# Altium footprint library MyPcbLib.PcbLib: 65 footprints (part 1 of 5)
Each footprint in its own frame and in the unit in brackets; x right, y up, seen from the top. Pads: shape width x height; smd on the part's side, far side on the other; paste and mask are expansions set on the pad; w line width, h text height; cw(c..) or ccw(c..) is an arc to the next point about the centre after c.
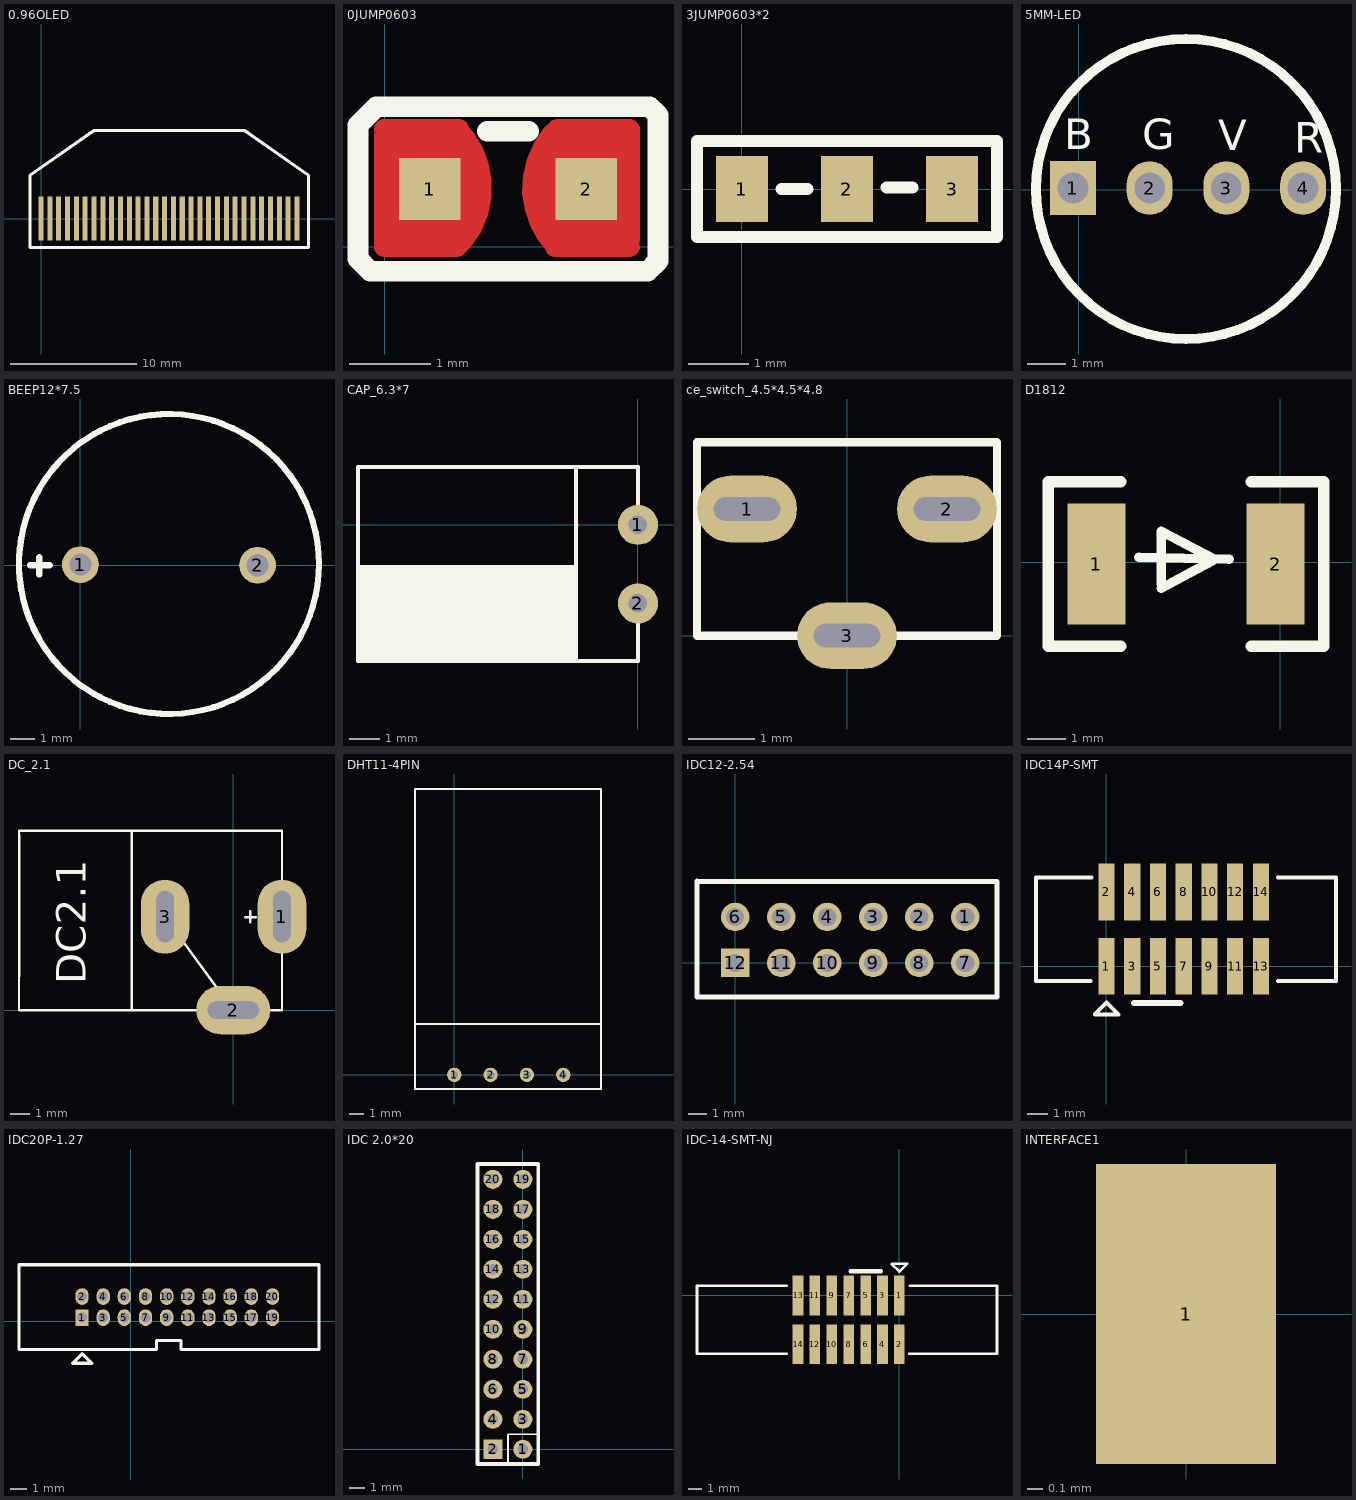
[diagram p0: the footprints below, top view; thin cyan lines are the x and y axes]

## 0.96OLED [mm]
pads (30):
  rect 0.4x3.5 smd: 1(0,0) 2(0.7,0) 3(1.4,0) 4(2.1,0) 5(2.8,0) 6(3.5,0) 7(4.2,0) 8(4.9,0) 9(5.6,0) 10(6.3,0) 11(7,0) 12(7.7,0) 13(8.4,0) 14(9.1,0) 15(9.8,0) 16(10.5,0) 17(11.2,0) 18(11.9,0) 19(12.6,0) 20(13.3,0) 21(14,0) 22(14.7,0) 23(15.4,0) 24(16.1,0) 25(16.8,0) 26(17.5,0) 27(18.2,0) 28(18.9,0) 29(19.6,0) 30(20.3,0)
Top Overlay:
  lines w0.254: -0.889,-2.286 21.209,-2.286 21.209,3.429 16.129,6.985 4.191,6.985 -0.889,3.429 -0.889,-2.286

## 0JUMP0603 [mil]
pads (2):
  rect 30x30 all layers, no hole: 1(22,28) 2(98,28)
Top Layer:
  region: 78.08,-0.98 78.25,-1.84 79.15,-3.33 80.49,-4.43 82.13,-5.01 83,-5.01 119,-5.01 120,-5.01 121.84,-4.25 123.25,-2.84 124.02,-1 124.02,0 124.02,0.19 123.99,0.57 123.93,0.95 123.84,1.32 123.79,1.5 123.84,1.68 123.93,2.05 123.99,2.43 124.02,2.81 124.02,3 124.02,57 124.02,58 123.25,59.84 121.84,61.25 120,62.02 119,62.02 84,62.02 83.51,62.02 82.54,61.82 81.62,61.44 80.8,60.9 80.45,60.55 77.45,57.55 72.67,50.53 69.27,42.76 67.38,34.49 67.05,26 68.3,17.61 71.09,9.6 75.32,2.24
  region: 0,-5.01 -1,-5.01 -2.84,-4.25 -4.25,-2.84 -5.01,-1 -5.01,0 -5.01,54 -5.01,54.19 -4.99,54.57 -4.93,54.95 -4.84,55.32 -4.79,55.5 -5.14,56.64 -4.75,59 -3.33,60.93 -1.2,62.02 0,62.02 36,62.02 36.87,62.02 38.51,61.43 39.85,60.33 40.75,58.84 40.92,57.98 40.92,57.99 43.53,54.93 47.61,47.99 50.4,40.44 51.82,32.52 51.82,28.5 51.82,24.04 50.08,15.28 46.66,7.03 41.7,-0.39 38.55,-3.55 38.2,-3.9 37.38,-4.44 36.46,-4.82 35.49,-5.01 35,-5.01
Top Overlay:
  lines w10: 50,56 70,56 ; -13,-6 -13,59 -4,68 129,68 132,65 133,64 133,-7 128,-12 -7,-12 -13,-6

## 3JUMP0603*2 [mm]
pads (3):
  rect 0.862x1.1 smd: 1(0,0) 2(1.75,0) 3(3.503,0)
Top Overlay:
  lines w0.203: 0.279,-0.8 4.237,-0.8 ; 0.279,0.8 4.237,0.8 ; 0.3,-0.8 -0.75,-0.8 -0.75,0.8 0.3,0.8 ; 0.66,0 1.092,0 ; 2.413,0.025 2.845,0.025 ; 4.253,-0.8 4.253,0.8
3D body "R0603.STEP": height 0.45, standoff 0, extent 0.104,-0.399 1.704,0.401

## 5MM-LED [mm]
pads (4):
  rect 1.2x1.4 hole 0.8: 1(-0.152,0.051)
  oval 1.2x1.4 hole 0.8: 2(1.848,0.051) 3(3.848,0.051) 4(5.848,0.051)
Top Overlay:
  circle w0.254: c2.795,0.025 r3.91
  text "R" at 5.613,0.965 h0.8
  text "V" at 3.632,1.041 h0.8
  text "G" at 1.651,1.067 h0.8
  text "B" at -0.381,1.067 h0.8

## BEEP12*7.5 [mm]
pads (2):
  round 1.5 hole 0.9: 1(0,0.025) 2(7.214,0)
Top Overlay:
  circle w0.254: c3.607,0.051 r6.108
  lines w0.254: -2.057,0 -1.245,0 ; -1.676,-0.381 -1.676,0.33

## CAP_6.3*7 [mm]
pads (2):
  round 1.3 hole 0.6: 1(0,0) 2(0,-2.55)
Top Overlay:
  rectangle: -9.093,-4.42 -2.007,-1.372
  lines w0.127: -9.093,-1.372 -2.007,-1.372 ; -9.093,1.854 -9.093,-4.42 -8.255,-4.42 -0.229,-4.42 0,-4.42 0,-2.55 ; -9.093,1.88 -8.255,1.88 -0.229,1.88 0,1.88 0,0 ; -2.007,-4.394 -2.007,-2.54 ; -2.007,-2.55 -2.007,0 ; -2.007,-0.051 -2.007,1.88
Mechanical 1:
  lines w0.127: -2.007,-0.178 -2,0
3D body: height 6.3, standoff 0, extent -9.083,-4.417 -2.083,1.877

## ce_switch_4.5*4.5*4.8 [mm]
pads (3):
  oval 1.5x1 hole 0.35 slot 1 at 0 deg: 1(-1.5,1.9) 2(1.5,1.9) 3(0,0)
Top Overlay:
  lines w0.127: -2.25,0 -2.25,2.9 2.25,2.9 2.25,0 -2.25,0
3D body: height 3.5, standoff 1, extent -1.093,-1.905 1.397,-0.005
3D body: height 4.5, standoff 0, extent -2.235,0 2.261,2.896

## D1812 [mil]
pads (2):
  rect 60x125 smd: 1(-190,-2) 2(-5,-2)
Top Overlay:
  lines w10: -146,5 -53,3 ; -123,-27 -71,1 ; -123,-23 -123,29 ; -123,32 -68,3
  lines w12: -165,-87 -240,-87 -240,83 -165,83 ; -30,-87 45,-87 45,83 -30,83

## DC_2.1 [mm]
pads (3):
  oval 2.5x3.8 hole 0.9 slot 2.65 at 90 deg: 1(2.5,4.801) 3(-3.5,4.8)
  oval 3.8x2.5 hole 0.9 slot 2.65 at 0 deg: 2(0,0)
Top Overlay:
  lines w0.127: -10.998,3.353 -10.998,8.839 -11,9.195 -10.389,9.2 -4.343,9.2 -3.5,9.2 ; -10.998,3.404 -11,0 0,0 ; -5.207,0 -5.207,9.2 ; -3.886,9.2 2.5,9.196 ; -3.5,4.801 0,0 ; 0.61,4.775 1.143,4.775 ; 0.864,4.521 0.864,5.08 ; 2.057,4.8 2.5,4.801 2.5,0 0,0 ; 2.5,4.75 2.5,9.195
  text "DC2.1" at -7.569,1.321 h1.52
3D body: height 10.8, standoff 0, extent -10.973,-0.025 2.464,9.169

## DHT11-4PIN [mm]
pads (4):
  round 1 hole 0.55: 1(0,0) 2(2.54,0) 3(5.08,0) 4(7.62,0)
Top Overlay:
  lines w0.127: -2.743,3.556 10.236,3.556 ; -2.743,-0.991 -2.743,20 10.257,20 10.257,-0.991 -2.743,-0.991

## IDC12-2.54 [mil]
pads (12):
  round 62 hole 39.37: 1(500,100) 2(400,100) 3(300,100) 4(200,100) 5(100,100) 6(0,100) 7(500,0) 8(400,0) 9(300,0) 10(200,0) 11(100,0)
  rect 62x62 hole 39.37: 12(0,0)
Top Overlay:
  lines w10: -18,177 569,177 569,-68 569,-74 -83,-74 -83,178 -82,177 -5,177

## IDC14P-SMT [mm]
pads (14):
  rect 0.8x2.8 smd: 1(0,0) 2(0,3.67) 3(1.27,0) 4(1.27,3.67) 5(2.54,0) 6(2.54,3.67) 7(3.81,0) 8(3.81,3.67) 9(5.08,0) 10(5.08,3.67) 11(6.35,0) 12(6.35,3.67) 13(7.62,0) 14(7.62,3.67)
Top Overlay:
  lines w0.2: -0.787,-0.715 -3.48,-0.715 -3.48,4.385 -0.737,4.385 ; -0.572,-2.375 0.584,-2.375 0,-1.791 -0.572,-2.362 ; 8.458,-0.715 11.328,-0.715 11.328,4.385 8.458,4.385
  lines w0.305: 1.372,-1.816 3.658,-1.816
3D body "User Library-IDC-1.step": height 5.6, standoff 0, extent -2.389,-1 10.211,4.67

## IDC20P-1.27 [mm]
pads (20):
  rect 0.8x1 hole 0.6: 1(-2.921,0.229)
  oval 0.8x1 hole 0.6: 2(-2.921,1.499) 3(-1.651,0.229) 4(-1.651,1.499) 5(-0.381,0.229) 6(-0.381,1.499) 7(0.889,0.229) 8(0.889,1.499) 9(2.159,0.229) 10(2.159,1.499) 11(3.429,0.229) 12(3.429,1.499) 13(4.699,0.229) 14(4.699,1.499) 15(5.969,0.229) 16(5.969,1.499) 17(7.239,0.229) 18(7.239,1.499) 19(8.509,0.229) 20(8.509,1.499)
Top Overlay:
  lines w0.2: -3.492,-2.515 -2.337,-2.515 -2.921,-1.93 -3.492,-2.502 ; -6.706,-1.686 1.549,-1.686 1.549,-1.143 3.023,-1.143 3.023,-1.686 11.303,-1.686 11.303,3.414 -6.706,3.414 -6.706,-1.686
3D body "2002151100016t1lf.stp": height 5.4, standoff -2.3, extent -5.995,-1.686 10.465,3.414

## IDC 2.0*20 [mm]
pads (20):
  round 1.27 hole 0.7: 1(0,0) 3(0,2) 4(-2,2) 5(0,4) 6(-2,4) 7(0,6) 8(-2,6) 9(0,8) 10(-2,8) 11(0,10) 12(-2,10) 13(0,12) 14(-2,12) 15(0,14) 16(-2,14) 17(0,16) 18(-2,16) 19(0,18) 20(-2,18)
  rect 1.27x1.27 hole 0.7: 2(-2,0)
Top Overlay:
  lines w0.127: -0.991,-0.985 -0.991,1 1.032,1
  lines w0.254: -3.023,19 -3.023,-0.985 1.016,-0.985 1.016,19.023 -3.023,19.023

## IDC-14-SMT-NJ [mm]
pads (14):
  rect 0.8x3 smd: 1(0,0) 2(0,-3.67) 3(-1.27,0) 4(-1.27,-3.67) 5(-2.54,0) 6(-2.54,-3.67) 7(-3.81,0) 8(-3.81,-3.67) 9(-5.08,0) 10(-5.08,-3.67) 11(-6.35,0) 12(-6.35,-3.67) 13(-7.62,0) 14(-7.62,-3.67)
Top Overlay:
  lines w0.2: -8.458,-4.385 -15.215,-4.385 -15.215,0.715 -8.458,0.715 ; 0.572,2.362 0,1.791 -0.584,2.375 0.572,2.375 ; 0.737,-4.385 7.341,-4.385 7.341,0.715 0.787,0.715
  lines w0.305: -3.658,1.816 -1.372,1.816
3D body "User Library-IDC-1.step": height 5.6, standoff 0, extent -10.211,-4.67 2.389,1

## INTERFACE1 [mm]
pads (1):
  rect 1.2x2 smd: 1(0,0)